# Altium schematic symbol library fw_pattern.SchLib: 1 symbol
Pins are listed as number, name and electrical type; pins without a type are passive.

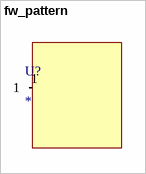
[diagram p0: symbol fw_pattern]

## fw_pattern
designator U?
Value: *
pins: 1